# Altium schematic symbol library 74LVC2G08.SchLib: 1 symbol
Pins are listed as number, name and electrical type; pins without a type are passive.

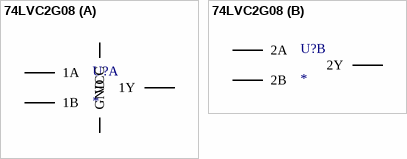
[diagram p0: symbol 74LVC2G08]

## 74LVC2G08
designator U?
part A pins: 1 1A, 2 1B, 4 GND, 7 1Y, 8 VCC (power)
part B pins: 3 2Y, 5 2A, 6 2B